# Altium footprint library Spadgenske.PcbLib: 18 footprints (part 2 of 2)
Each footprint in its own frame and in the unit in brackets; x right, y up, seen from the top. Pads: shape width x height; smd on the part's side, far side on the other; paste and mask are expansions set on the pad; w line width, h text height; cw(c..) or ccw(c..) is an arc to the next point about the centre after c.
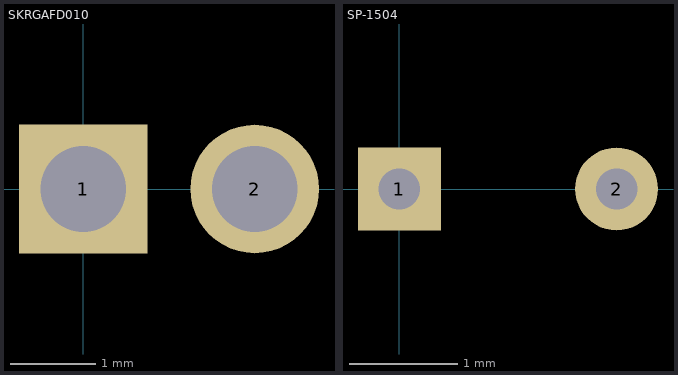
[diagram p1: the footprints below, top view; thin cyan lines are the x and y axes]

## SKRGAFD010 [mm] "Tactile Switches 50 mAmps at 12 Volts"
pads (2):
  rect 1.5x1.5 hole 1: 1(0,0)
  round 1.5 hole 1: 2(2,0)

## SP-1504 [mil]
pads (2):
  rect 30x30 hole 15: 1(0,0)
  round 30 hole 15: 2(78.74,0)